# Altium schematic symbol library DAC7311.SchLib: 1 symbol
Pins are listed as number, name and electrical type; pins without a type are passive.

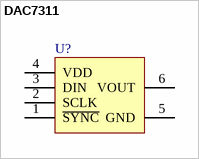
[diagram p0: symbol DAC7311]

## DAC7311
designator U?  (value not drawn)
pins: 1 ~{SYNC}, 2 SCLK, 3 DIN, 4 VDD, 5 GND, 6 VOUT